# Altium schematic symbol library SMD Micro Controllers.SchLib: 10 symbols
Pins are listed as number, name and electrical type; pins without a type are passive.

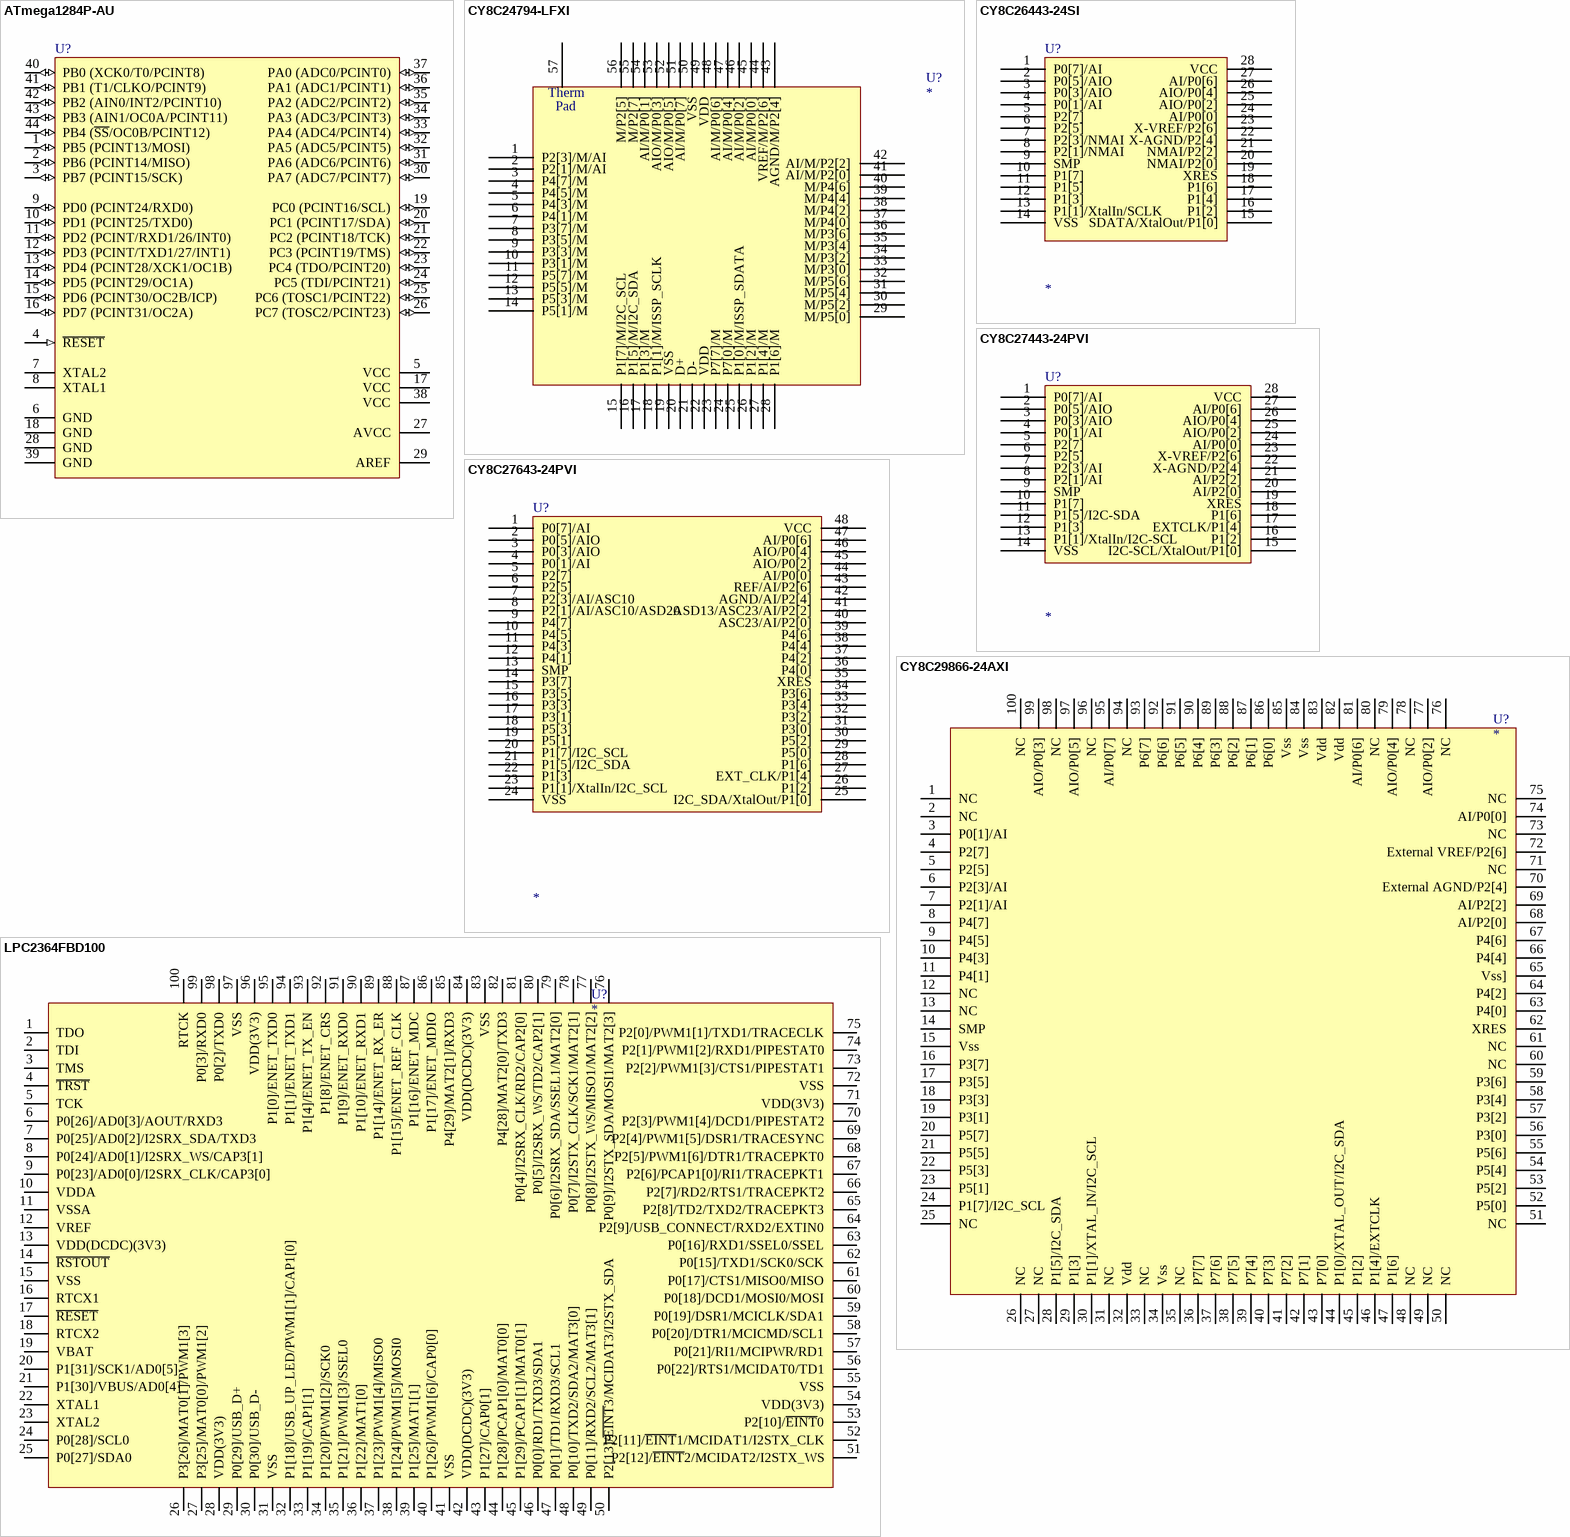
[diagram p0: symbols ATmega1284P-AU to LPC2364FBD100]

## ATmega1284P-AU
designator U?
8-bit AVR Microcontroller, 128KB Flash, 4KB EEPROM, 16KB SRAM, 44-pin TQFP, Industrial Grade (-40°C to 85°C), Reel; Published: 1-Apr-2010; DatasheetVersion: revA, Jan-2010; PackageVersion: rev.B, Oct-2001; PackageReference: 44A; Publisher: Altium Limited; PackageDescription: 44-Pin Plastic Thin Profile Quad Flat Pack, 10 x 10 x 1.0 mm Body, 0.8 mm Pitch (TQFP); Supplier 1: Digi-Key; Supplier Part Number 1: ATMEGA1284P-AUR-ND; Supplier 2: Mouser; Supplier Part Number 2: 556-ATMEGA1284P-AUR; ComponentLink1Description: Manufacturer Link; ComponentLink1URL: http://www.atmel.com/products/avr/default.asp?; ComponentLink2Description: ATmega164A/164PA/324A/324PA/644A/644PA/1284/1284P Datasheet; ComponentLink2URL: http://www.atmel.com/dyn/resources/prod_documents/doc8272.pdf; ComponentLink3Description: ATmega164A/164PA/324A/324PA/644A/644PA/1284/1284P Summary; ComponentLink3URL: http://www.atmel.com/dyn/resources/prod_documents/8272S.pdf; ComponentLink4Description: Atmel.com Home; ComponentLink4URL: http://www.atmel.com
footprint TQFP-44-P08 (Thin QFP, 44-Leads, Body 10x10mm, Pitch 0.8mm, IPC High Density)
pins: 1 PB5 (PCINT13/MOSI) (io), 2 PB6 (PCINT14/MISO) (io), 3 PB7 (PCINT15/SCK) (io), 4 ~{RESET} (in), 5 VCC (power), 6 GND (power), 7 XTAL2, 8 XTAL1, 9 PD0 (PCINT24/RXD0) (io), 10 PD1 (PCINT25/TXD0) (io), 11 PD2 (PCINT/RXD1/26/INT0) (io), 12 PD3 (PCINT/TXD1/27/INT1) (io), 13 PD4 (PCINT28/XCK1/OC1B) (io), 14 PD5 (PCINT29/OC1A) (io), 15 PD6 (PCINT30/OC2B/ICP) (io), 16 PD7 (PCINT31/OC2A) (io), 17 VCC (power), 18 GND (power), 19 PC0 (PCINT16/SCL) (io), 20 PC1 (PCINT17/SDA) (io), 21 PC2 (PCINT18/TCK) (io), 22 PC3 (PCINT19/TMS) (io), 23 PC4 (TDO/PCINT20) (io), 24 PC5 (TDI/PCINT21) (io), 25 PC6 (TOSC1/PCINT22) (io), 26 PC7 (TOSC2/PCINT23) (io), 27 AVCC (power), 28 GND (power), 29 AREF (power), 30 PA7 (ADC7/PCINT7) (io), 31 PA6 (ADC6/PCINT6) (io), 32 PA5 (ADC5/PCINT5) (io), 33 PA4 (ADC4/PCINT4) (io), 34 PA3 (ADC3/PCINT3) (io), 35 PA2 (ADC2/PCINT2) (io), 36 PA1 (ADC1/PCINT1) (io), 37 PA0 (ADC0/PCINT0) (io), 38 VCC (power), 39 GND (power), 40 PB0 (XCK0/T0/PCINT8) (io), 41 PB1 (T1/CLKO/PCINT9) (io), 42 PB2 (AIN0/INT2/PCINT10) (io), 43 PB3 (AIN1/OC0A/PCINT11) (io), 44 PB4 (~{SS}/OC0B/PCINT12) (io)

## CY8C24794-LFXI
designator U?
16k Flash, 1k SRAM, 24MHz, 8 Bit PSoC, Cypress Semiconductor; Text Field2: CY8C24794 Datasheet (.pdf); Text Field1: 16k Flash, 1k SRAM, 24MHz, 8 Bit PSoC, Cypress Semiconductor
footprint QFN-MLF56 (56-Pin Punch Version Quad Flat No-Lead 0.5 mm Pitch, IPC Medium Density)
pins: 1 P2[3]/M/AI, 2 P2[1]/M/AI, 3 P4[7]/M, 4 P4[5]/M, 5 P4[3]/M, 6 P4[1]/M, 7 P3[7]/M, 8 P3[5]/M, 9 P3[3]/M, 10 P3[1]/M, 11 P5[7]/M, 12 P5[5]/M, 13 P5[3]/M, 14 P5[1]/M, 15 P1[7]/M/I2C_SCL, 16 P1[5]/M/I2C_SDA, 17 P1[3]/M, 18 P1[1]/M/ISSP_SCLK, 19 VSS, 20 D+, 21 D-, 22 VDD, 23 P7[7]/M, 24 P7[0]/M, 25 P1[0]/M/ISSP_SDATA, 26 P1[2]/M, 27 P1[4]/M, 28 P1[6]/M, 29 M/P5[0], 30 M/P5[2], 31 M/P5[4], 32 M/P5[6], 33 M/P3[0], 34 M/P3[2], 35 M/P3[4], 36 M/P3[6], 37 M/P4[0], 38 M/P4[2], 39 M/P4[4], 40 M/P4[6], 41 AI/M/P2[0], 42 AI/M/P2[2], 43 AGND/M/P2[4], 44 VREF/M/P2[6], 45 AI/M/P0[0], 46 AI/M/P0[2], 47 AI/M/P0[4], 48 AI/M/P0[6], 49 VDD, 50 VSS, 51 AI/M/P0[7], 52 AIO/M/P0[5], 53 AIO/M/P0[3], 54 AI/M/P0[1], 55 M/P2[7], 56 M/P2[5], 57 Thermal
text: Therm; Pad

## CY8C26443-24SI
designator U?
12k Flash Program, 256 Byte SRAM, 24MHz, 8 Bit, PSoC, Cypress Microcontroller; Text Field2: 8 Digital, 12 Analog PSoC; Text Field3: 24 IO Pins; Text Field4: External Switch Mode Pump; Text Field1: 12k Flash Program, 256 Byte SRAM, 24MHz, 8 Bit,  PSoC, Cypress Microcontroller; SO28W: *
footprint SO28W (28-Pin Small Outline Integrated Circuit 1.27 mm Pitch, IPC Low Density)
pins: 1 P0[7]/AI, 2 P0[5]/AIO, 3 P0[3]/AIO, 4 P0[1]/AI, 5 P2[7], 6 P2[5], 7 P2[3]/NMAI, 8 P2[1]/NMAI, 9 SMP, 10 P1[7], 11 P1[5], 12 P1[3], 13 P1[1]/XtalIn/SCLK, 14 VSS, 15 SDATA/XtalOut/P1[0], 16 P1[2], 17 P1[4], 18 P1[6], 19 XRES, 20 NMAI/P2[0], 21 NMAI/P2[2], 22 X-AGND/P2[4], 23 X-VREF/P2[6], 24 AI/P0[0], 25 AIO/P0[2], 26 AIO/P0[4], 27 AI/P0[6], 28 VCC

## CY8C27443-24PVI
designator U?
12k Flash Program, 256 Byte SRAM, 24MHz, 8 Bit, PSoC, Cypress Microcontroller; Text Field2: 8 Digital, 12 Analog PSoC; Text Field3: 24 IO Pins; Text Field4: External Switch Mode Pump; Text Field1: 12k Flash Program, 256 Byte SRAM, 24MHz, 8 Bit,  PSoC, Cypress Microcontroller; SSOP28-210-1: *
footprint SSOP-28 (SSOP; 28 Leads; Body Width 5.3 mm; Pitch 0.65 mm)
pins: 1 P0[7]/AI, 2 P0[5]/AIO, 3 P0[3]/AIO, 4 P0[1]/AI, 5 P2[7], 6 P2[5], 7 P2[3]/AI, 8 P2[1]/AI, 9 SMP, 10 P1[7], 11 P1[5]/I2C-SDA, 12 P1[3], 13 P1[1]/XtalIn/I2C-SCL, 14 VSS, 15 I2C-SCL/XtalOut/P1[0], 16 P1[2], 17 EXTCLK/P1[4], 18 P1[6], 19 XRES, 20 AI/P2[0], 21 AI/P2[2], 22 X-AGND/P2[4], 23 X-VREF/P2[6], 24 AI/P0[0], 25 AIO/P0[2], 26 AIO/P0[4], 27 AI/P0[6], 28 VCC

## CY8C27643-24PVI
designator U?
16k Flash Program, 256 Byte SRAM, 24MHz, 8 Bit, PSoC, Cypress Microcontroller; Text Field1: 12k Flash Program, 256 Byte SRAM, 24MHz, 8 Bit,  PSoC, Cypress Microcontroller; Text Field2: 8 Digital, 12 Analog PSoC; Text Field3: 44/48 IO Pins; Text Field4: External Switch Mode Pump; SSOP48-300-1: *
footprint SSOP-48 (SSOP; 48 Leads; Body Width 7.5 mm; Pitch 0.635 mm)
pins: 1 P0[7]/AI, 2 P0[5]/AIO, 3 P0[3]/AIO, 4 P0[1]/AI, 5 P2[7], 6 P2[5], 7 P2[3]/AI/ASC10, 8 P2[1]/AI/ASC10/ASD20, 9 P4[7], 10 P4[5], 11 P4[3], 12 P4[1], 13 SMP, 14 P3[7], 15 P3[5], 16 P3[3], 17 P3[1], 18 P5[3], 19 P5[1], 20 P1[7]/I2C_SCL, 21 P1[5]/I2C_SDA, 22 P1[3], 23 P1[1]/XtalIn/I2C_SCL, 24 VSS, 25 I2C_SDA/XtalOut/P1[0], 26 P1[2], 27 EXT_CLK/P1[4], 28 P1[6], 29 P5[0], 30 P5[2], 31 P3[0], 32 P3[2], 33 P3[4], 34 P3[6], 35 XRES, 36 P4[0], 37 P4[2], 38 P4[4], 39 P4[6], 40 ASC23/AI/P2[0], 41 ASD13/ASC23/AI/P2[2], 42 AGND/AI/P2[4], 43 REF/AI/P2[6], 44 AI/P0[0], 45 AIO/P0[2], 46 AIO/P0[4], 47 AI/P0[6], 48 VCC

## CY8C29866-24AXI
designator U?
32k Flash, 2k SRAM, 24MHz, 8 Bit PSoC, Cypress Semiconductor; Text Field2: CY8C29866 Datasheet (.pdf); Text Field1: 32k Flash, 2k SRAM, 24MHz, 8 Bit PSoC, Cypress Semiconductor; TQFP100-14-1: *
footprint TQFP-100-P05 (Thin QFP, 100-Leads, Body 14x14mm, Pitch 0.5mm, IPC High Density)
pins: 1 NC, 2 NC, 3 P0[1]/AI, 4 P2[7], 5 P2[5], 6 P2[3]/AI, 7 P2[1]/AI, 8 P4[7], 9 P4[5], 10 P4[3], 11 P4[1], 12 NC, 13 NC, 14 SMP, 15 Vss, 16 P3[7], 17 P3[5], 18 P3[3], 19 P3[1], 20 P5[7], 21 P5[5], 22 P5[3], 23 P5[1], 24 P1[7]/I2C_SCL, 25 NC, 26 NC, 27 NC, 28 P1[5]/I2C_SDA, 29 P1[3], 30 P1[1]/XTAL_IN/I2C_SCL, 31 NC, 32 Vdd, 33 NC, 34 Vss, 35 NC, 36 P7[7], 37 P7[6], 38 P7[5], 39 P7[4], 40 P7[3], 41 P7[2], 42 P7[1], 43 P7[0], 44 P1[0]/XTAL_OUT/I2C_SDA, 45 P1[2], 46 P1[4]/EXTCLK, 47 P1[6], 48 NC, 49 NC, 50 NC, 51 NC, 52 P5[0], 53 P5[2], 54 P5[4], 55 P5[6], 56 P3[0], 57 P3[2], 58 P3[4], 59 P3[6], 60 NC, 61 NC, 62 XRES, 63 P4[0], 64 P4[2], 65 Vss], 66 P4[4], 67 P4[6], 68 AI/P2[0], 69 AI/P2[2], 70 External AGND/P2[4], 71 NC, 72 External VREF/P2[6], 73 NC, 74 AI/P0[0], 75 NC, 76 NC, 77 AIO/P0[2], 78 NC, 79 AIO/P0[4], 80 NC, 81 AI/P0[6], 82 Vdd, 83 Vdd, 84 Vss, 85 Vss, 86 P6[0], 87 P6[1], 88 P6[2], 89 P6[3], 90 P6[4], 91 P6[5], 92 P6[6], 93 P6[7], 94 NC, 95 AI/P0[7], 96 NC, 97 AIO/P0[5], 98 NC, 99 AIO/P0[3], 100 NC

## LPC2364FBD100
designator U?
ARM7 16/32-Bit Microcontroller, 128KB Flash, 34KB RAM, Ethernet, USB, 2Ch CAN, ADC, DAC, 100-Lead LQFP, NXP
footprint TQFP-100-P05 (Thin QFP, 100-Leads, Body 14x14mm, Pitch 0.5mm, IPC High Density)
pins: 1 TDO, 2 TDI, 3 TMS, 4 ~{TRST}, 5 TCK, 6 P0[26]/AD0[3]/AOUT/RXD3, 7 P0[25]/AD0[2]/I2SRX_SDA/TXD3, 8 P0[24]/AD0[1]/I2SRX_WS/CAP3[1], 9 P0[23]/AD0[0]/I2SRX_CLK/CAP3[0], 10 VDDA, 11 VSSA, 12 VREF, 13 VDD(DCDC)(3V3), 14 ~{RSTOUT}, 15 VSS, 16 RTCX1, 17 ~{RESET}, 18 RTCX2, 19 VBAT, 20 P1[31]/SCK1/AD0[5], 21 P1[30]/VBUS/AD0[4], 22 XTAL1, 23 XTAL2, 24 P0[28]/SCL0, 25 P0[27]/SDA0, 26 P3[26]/MAT0[1]/PWM1[3], 27 P3[25]/MAT0[0]/PWM1[2], 28 VDD(3V3), 29 P0[29]/USB_D+, 30 P0[30]/USB_D-, 31 VSS, 32 P1[18]/USB_UP_LED/PWM1[1]/CAP1[0], 33 P1[19]/CAP1[1], 34 P1[20]/PWM1[2]/SCK0, 35 P1[21]/PWM1[3]/SSEL0, 36 P1[22]/MAT1[0], 37 P1[23]/PWM1[4]/MISO0, 38 P1[24]/PWM1[5]/MOSI0, 39 P1[25]/MAT1[1], 40 P1[26]/PWM1[6]/CAP0[0], 41 VSS, 42 VDD(DCDC)(3V3), 43 P1[27]/CAP0[1], 44 P1[28]/PCAP1[0]/MAT0[0], 45 P1[29]/PCAP1[1]/MAT0[1], 46 P0[0]/RD1/TXD3/SDA1, 47 P0[1]/TD1/RXD3/SCL1, 48 P0[10]/TXD2/SDA2/MAT3[0], 49 P0[11]/RXD2/SCL2/MAT3[1], 50 P2[13]/~{EINT}3/MCIDAT3/I2STX_SDA, 51 P2[12]/~{EINT}2/MCIDAT2/I2STX_WS, 52 P2[11]/~{EINT}1/MCIDAT1/I2STX_CLK, 53 P2[10]/~{EINT}0, 54 VDD(3V3), 55 VSS, 56 P0[22]/RTS1/MCIDAT0/TD1, 57 P0[21]/RI1/MCIPWR/RD1, 58 P0[20]/DTR1/MCICMD/SCL1, 59 P0[19]/DSR1/MCICLK/SDA1, 60 P0[18]/DCD1/MOSI0/MOSI, 61 P0[17]/CTS1/MISO0/MISO, 62 P0[15]/TXD1/SCK0/SCK, 63 P0[16]/RXD1/SSEL0/SSEL, 64 P2[9]/USB_CONNECT/RXD2/EXTIN0, 65 P2[8]/TD2/TXD2/TRACEPKT3, 66 P2[7]/RD2/RTS1/TRACEPKT2, 67 P2[6]/PCAP1[0]/RI1/TRACEPKT1, 68 P2[5]/PWM1[6]/DTR1/TRACEPKT0, 69 P2[4]/PWM1[5]/DSR1/TRACESYNC, 70 P2[3]/PWM1[4]/DCD1/PIPESTAT2, 71 VDD(3V3), 72 VSS, 73 P2[2]/PWM1[3]/CTS1/PIPESTAT1, 74 P2[1]/PWM1[2]/RXD1/PIPESTAT0, 75 P2[0]/PWM1[1]/TXD1/TRACECLK, 76 P0[9]/I2STX_SDA/MOSI1/MAT2[3], 77 P0[8]/I2STX_WS/MISO1/MAT2[2], 78 P0[7]/I2STX_CLK/SCK1/MAT2[1], 79 P0[6]/I2SRX_SDA/SSEL1/MAT2[0], 80 P0[5]/I2SRX_WS/TD2/CAP2[1], 81 P0[4]/I2SRX_CLK/RD2/CAP2[0], 82 P4[28]/MAT2[0]/TXD3, 83 VSS, 84 VDD(DCDC)(3V3), 85 P4[29]/MAT2[1]/RXD3, 86 P1[17]/ENET_MDIO, 87 P1[16]/ENET_MDC, 88 P1[15]/ENET_REF_CLK, 89 P1[14]/ENET_RX_ER, 90 P1[10]/ENET_RXD1, 91 P1[9]/ENET_RXD0, 92 P1[8]/ENET_CRS, 93 P1[4]/ENET_TX_EN, 94 P1[1]/ENET_TXD1, 95 P1[0]/ENET_TXD0, 96 VDD(3V3), 97 VSS, 98 P0[2]/TXD0, 99 P0[3]/RXD0, 100 RTCK

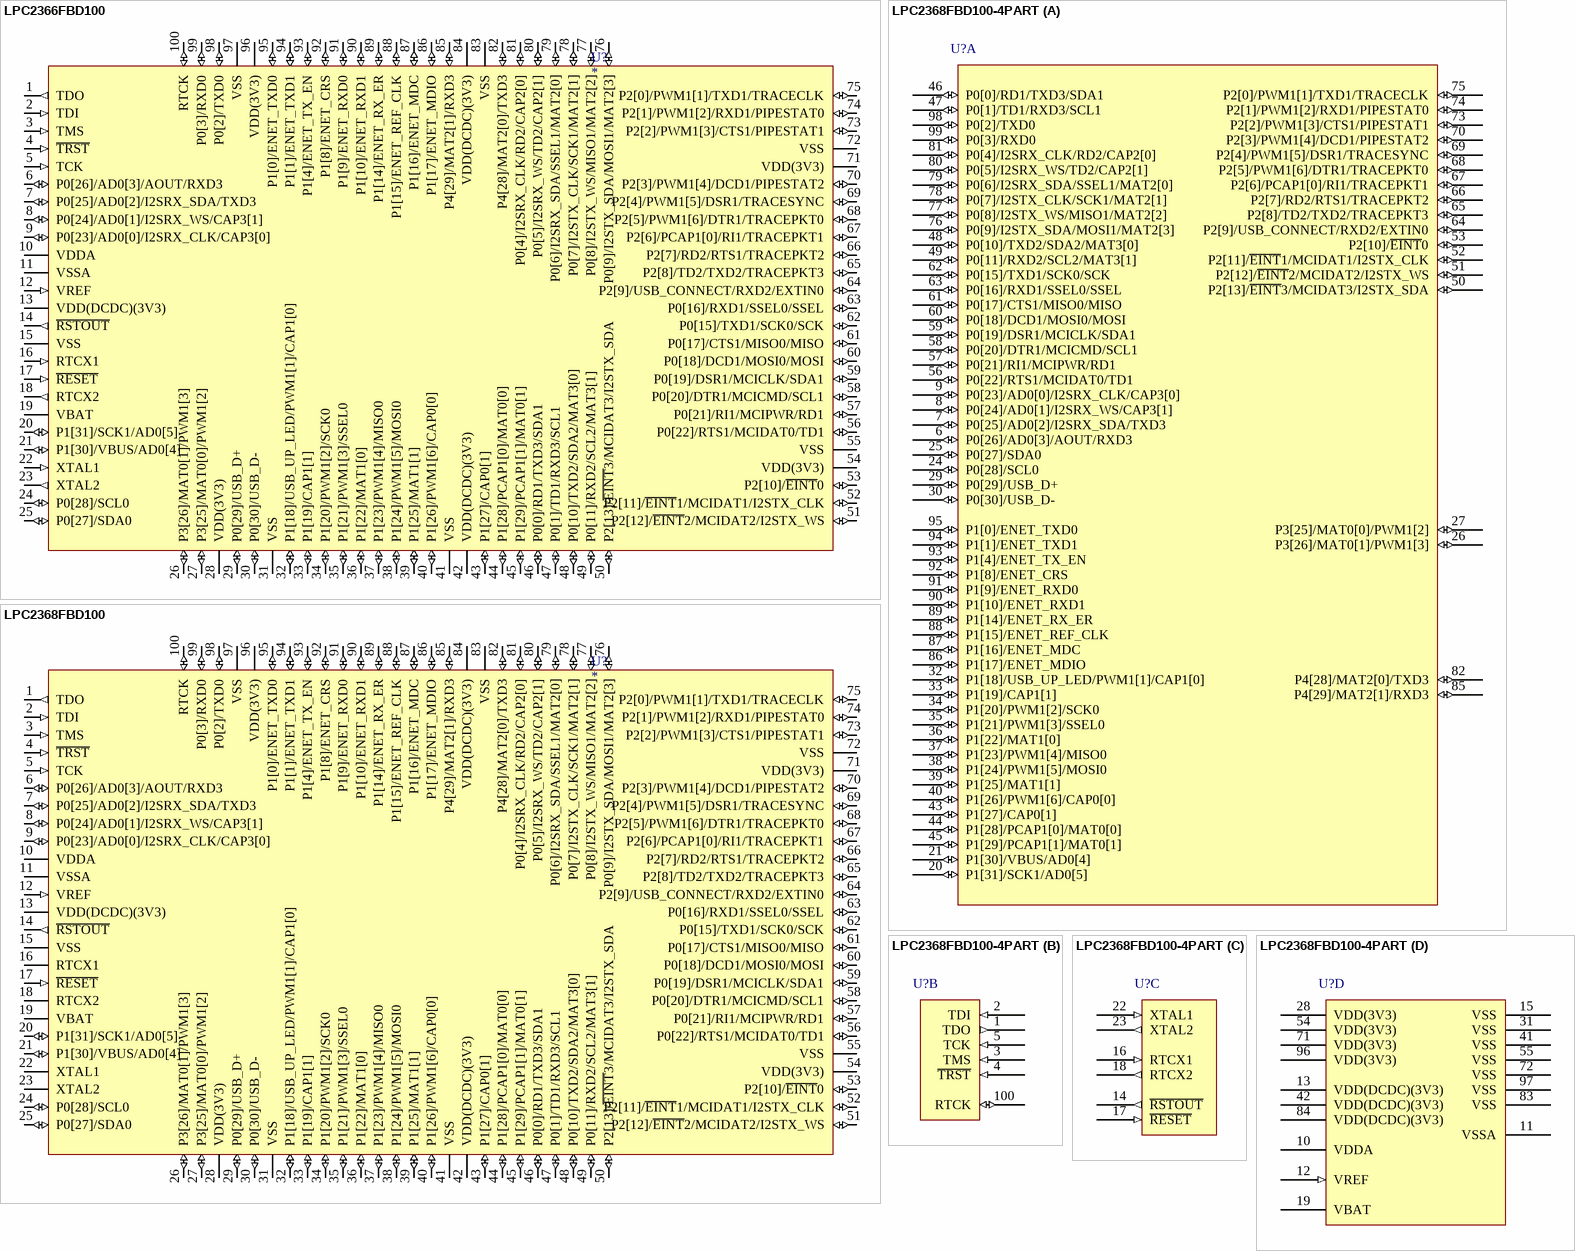
[diagram p1: symbols LPC2366FBD100 to LPC2368FBD100-4PART]

## LPC2366FBD100
designator U?
ARM7 16/32-Bit Microcontroller, 256KB Flash, 58KB RAM, Ethernet, USB, 2Ch CAN, ADC, DAC, 100-Lead LQFP, NXP
footprint TQFP-100-P05 (Thin QFP, 100-Leads, Body 14x14mm, Pitch 0.5mm, IPC High Density)
pins: 1 TDO (out), 2 TDI (in), 3 TMS (in), 4 ~{TRST} (in), 5 TCK (in), 6 P0[26]/AD0[3]/AOUT/RXD3 (io), 7 P0[25]/AD0[2]/I2SRX_SDA/TXD3 (io), 8 P0[24]/AD0[1]/I2SRX_WS/CAP3[1] (io), 9 P0[23]/AD0[0]/I2SRX_CLK/CAP3[0] (io), 10 VDDA (power), 11 VSSA (power), 12 VREF (in), 13 VDD(DCDC)(3V3) (power), 14 ~{RSTOUT} (out), 15 VSS (power), 16 RTCX1 (in), 17 ~{RESET} (in), 18 RTCX2 (out), 19 VBAT (power), 20 P1[31]/SCK1/AD0[5] (io), 21 P1[30]/VBUS/AD0[4] (io), 22 XTAL1 (in), 23 XTAL2 (out), 24 P0[28]/SCL0 (io), 25 P0[27]/SDA0 (io), 26 P3[26]/MAT0[1]/PWM1[3] (io), 27 P3[25]/MAT0[0]/PWM1[2] (io), 28 VDD(3V3) (power), 29 P0[29]/USB_D+ (io), 30 P0[30]/USB_D- (io), 31 VSS (power), 32 P1[18]/USB_UP_LED/PWM1[1]/CAP1[0] (io), 33 P1[19]/CAP1[1] (io), 34 P1[20]/PWM1[2]/SCK0 (io), 35 P1[21]/PWM1[3]/SSEL0 (io), 36 P1[22]/MAT1[0] (io), 37 P1[23]/PWM1[4]/MISO0 (io), 38 P1[24]/PWM1[5]/MOSI0 (io), 39 P1[25]/MAT1[1] (io), 40 P1[26]/PWM1[6]/CAP0[0] (io), 41 VSS (power), 42 VDD(DCDC)(3V3) (power), 43 P1[27]/CAP0[1] (io), 44 P1[28]/PCAP1[0]/MAT0[0] (io), 45 P1[29]/PCAP1[1]/MAT0[1] (io), 46 P0[0]/RD1/TXD3/SDA1 (io), 47 P0[1]/TD1/RXD3/SCL1 (io), 48 P0[10]/TXD2/SDA2/MAT3[0] (io), 49 P0[11]/RXD2/SCL2/MAT3[1] (io), 50 P2[13]/~{EINT}3/MCIDAT3/I2STX_SDA (io), 51 P2[12]/~{EINT}2/MCIDAT2/I2STX_WS (io), 52 P2[11]/~{EINT}1/MCIDAT1/I2STX_CLK (io), 53 P2[10]/~{EINT}0 (io), 54 VDD(3V3) (power), 55 VSS (power), 56 P0[22]/RTS1/MCIDAT0/TD1 (io), 57 P0[21]/RI1/MCIPWR/RD1 (io), 58 P0[20]/DTR1/MCICMD/SCL1 (io), 59 P0[19]/DSR1/MCICLK/SDA1 (io), 60 P0[18]/DCD1/MOSI0/MOSI (io), 61 P0[17]/CTS1/MISO0/MISO (io), 62 P0[15]/TXD1/SCK0/SCK (io), 63 P0[16]/RXD1/SSEL0/SSEL (io), 64 P2[9]/USB_CONNECT/RXD2/EXTIN0 (io), 65 P2[8]/TD2/TXD2/TRACEPKT3 (io), 66 P2[7]/RD2/RTS1/TRACEPKT2 (io), 67 P2[6]/PCAP1[0]/RI1/TRACEPKT1 (io), 68 P2[5]/PWM1[6]/DTR1/TRACEPKT0 (io), 69 P2[4]/PWM1[5]/DSR1/TRACESYNC (io), 70 P2[3]/PWM1[4]/DCD1/PIPESTAT2 (io), 71 VDD(3V3) (power), 72 VSS (power), 73 P2[2]/PWM1[3]/CTS1/PIPESTAT1 (io), 74 P2[1]/PWM1[2]/RXD1/PIPESTAT0 (io), 75 P2[0]/PWM1[1]/TXD1/TRACECLK (io), 76 P0[9]/I2STX_SDA/MOSI1/MAT2[3] (io), 77 P0[8]/I2STX_WS/MISO1/MAT2[2] (io), 78 P0[7]/I2STX_CLK/SCK1/MAT2[1] (io), 79 P0[6]/I2SRX_SDA/SSEL1/MAT2[0] (io), 80 P0[5]/I2SRX_WS/TD2/CAP2[1] (io), 81 P0[4]/I2SRX_CLK/RD2/CAP2[0] (io), 82 P4[28]/MAT2[0]/TXD3 (io), 83 VSS (power), 84 VDD(DCDC)(3V3) (power), 85 P4[29]/MAT2[1]/RXD3 (io), 86 P1[17]/ENET_MDIO (io), 87 P1[16]/ENET_MDC (io), 88 P1[15]/ENET_REF_CLK (io), 89 P1[14]/ENET_RX_ER (io), 90 P1[10]/ENET_RXD1 (io), 91 P1[9]/ENET_RXD0 (io), 92 P1[8]/ENET_CRS (io), 93 P1[4]/ENET_TX_EN (io), 94 P1[1]/ENET_TXD1 (io), 95 P1[0]/ENET_TXD0 (io), 96 VDD(3V3) (power), 97 VSS (power), 98 P0[2]/TXD0 (io), 99 P0[3]/RXD0 (io), 100 RTCK (io)

## LPC2368FBD100
designator U?
ARM7 16/32-Bit Microcontroller, 512KB Flash, 58KB RAM, Ethernet, SD/MMC, USB, 2Ch CAN, ADC, DAC, 100-Lead LQFP, NXP
footprint TQFP-100-P05 (Thin QFP, 100-Leads, Body 14x14mm, Pitch 0.5mm, IPC High Density)
pins: 1 TDO (out), 2 TDI (in), 3 TMS (in), 4 ~{TRST} (in), 5 TCK (in), 6 P0[26]/AD0[3]/AOUT/RXD3 (io), 7 P0[25]/AD0[2]/I2SRX_SDA/TXD3 (io), 8 P0[24]/AD0[1]/I2SRX_WS/CAP3[1] (io), 9 P0[23]/AD0[0]/I2SRX_CLK/CAP3[0] (io), 10 VDDA (power), 11 VSSA (power), 12 VREF (in), 13 VDD(DCDC)(3V3) (power), 14 ~{RSTOUT} (out), 15 VSS (power), 16 RTCX1, 17 ~{RESET} (in), 18 RTCX2, 19 VBAT (power), 20 P1[31]/SCK1/AD0[5] (io), 21 P1[30]/VBUS/AD0[4] (io), 22 XTAL1, 23 XTAL2, 24 P0[28]/SCL0 (io), 25 P0[27]/SDA0 (io), 26 P3[26]/MAT0[1]/PWM1[3] (io), 27 P3[25]/MAT0[0]/PWM1[2] (io), 28 VDD(3V3) (power), 29 P0[29]/USB_D+ (io), 30 P0[30]/USB_D- (io), 31 VSS (power), 32 P1[18]/USB_UP_LED/PWM1[1]/CAP1[0] (io), 33 P1[19]/CAP1[1] (io), 34 P1[20]/PWM1[2]/SCK0 (io), 35 P1[21]/PWM1[3]/SSEL0 (io), 36 P1[22]/MAT1[0] (io), 37 P1[23]/PWM1[4]/MISO0 (io), 38 P1[24]/PWM1[5]/MOSI0 (io), 39 P1[25]/MAT1[1] (io), 40 P1[26]/PWM1[6]/CAP0[0] (io), 41 VSS (power), 42 VDD(DCDC)(3V3) (power), 43 P1[27]/CAP0[1] (io), 44 P1[28]/PCAP1[0]/MAT0[0] (io), 45 P1[29]/PCAP1[1]/MAT0[1] (io), 46 P0[0]/RD1/TXD3/SDA1 (io), 47 P0[1]/TD1/RXD3/SCL1 (io), 48 P0[10]/TXD2/SDA2/MAT3[0] (io), 49 P0[11]/RXD2/SCL2/MAT3[1] (io), 50 P2[13]/~{EINT}3/MCIDAT3/I2STX_SDA (io), 51 P2[12]/~{EINT}2/MCIDAT2/I2STX_WS (io), 52 P2[11]/~{EINT}1/MCIDAT1/I2STX_CLK (io), 53 P2[10]/~{EINT}0 (io), 54 VDD(3V3) (power), 55 VSS (power), 56 P0[22]/RTS1/MCIDAT0/TD1 (io), 57 P0[21]/RI1/MCIPWR/RD1 (io), 58 P0[20]/DTR1/MCICMD/SCL1 (io), 59 P0[19]/DSR1/MCICLK/SDA1 (io), 60 P0[18]/DCD1/MOSI0/MOSI (io), 61 P0[17]/CTS1/MISO0/MISO (io), 62 P0[15]/TXD1/SCK0/SCK (io), 63 P0[16]/RXD1/SSEL0/SSEL (io), 64 P2[9]/USB_CONNECT/RXD2/EXTIN0 (io), 65 P2[8]/TD2/TXD2/TRACEPKT3 (io), 66 P2[7]/RD2/RTS1/TRACEPKT2 (io), 67 P2[6]/PCAP1[0]/RI1/TRACEPKT1 (io), 68 P2[5]/PWM1[6]/DTR1/TRACEPKT0 (io), 69 P2[4]/PWM1[5]/DSR1/TRACESYNC (io), 70 P2[3]/PWM1[4]/DCD1/PIPESTAT2 (io), 71 VDD(3V3) (power), 72 VSS (power), 73 P2[2]/PWM1[3]/CTS1/PIPESTAT1 (io), 74 P2[1]/PWM1[2]/RXD1/PIPESTAT0 (io), 75 P2[0]/PWM1[1]/TXD1/TRACECLK (io), 76 P0[9]/I2STX_SDA/MOSI1/MAT2[3] (io), 77 P0[8]/I2STX_WS/MISO1/MAT2[2] (io), 78 P0[7]/I2STX_CLK/SCK1/MAT2[1] (io), 79 P0[6]/I2SRX_SDA/SSEL1/MAT2[0] (io), 80 P0[5]/I2SRX_WS/TD2/CAP2[1] (io), 81 P0[4]/I2SRX_CLK/RD2/CAP2[0] (io), 82 P4[28]/MAT2[0]/TXD3 (io), 83 VSS (power), 84 VDD(DCDC)(3V3) (power), 85 P4[29]/MAT2[1]/RXD3 (io), 86 P1[17]/ENET_MDIO (io), 87 P1[16]/ENET_MDC (io), 88 P1[15]/ENET_REF_CLK (io), 89 P1[14]/ENET_RX_ER (io), 90 P1[10]/ENET_RXD1 (io), 91 P1[9]/ENET_RXD0 (io), 92 P1[8]/ENET_CRS (io), 93 P1[4]/ENET_TX_EN (io), 94 P1[1]/ENET_TXD1 (io), 95 P1[0]/ENET_TXD0 (io), 96 VDD(3V3) (power), 97 VSS (power), 98 P0[2]/TXD0 (io), 99 P0[3]/RXD0 (io), 100 RTCK (io)

## LPC2368FBD100-4PART
designator U?
ARM7 16/32-Bit Microcontroller, 512KB Flash, 58KB RAM, 4 Channel CAN, 100-Lead LQFP; Code_IEC: 136E20; Published: 17-Aug-2007; DatasheetVersion: rev.01, Jan-2007; PackageVersion: Feb-2003; PackageReference: SOT407-1; Publisher: Altium Limited; PackageDescription: 100-Pin Plastic Low Profile Quad Flat Pack, LQFP100; Code_JEDEC: MS-026; ComponentLink1Description: Manufacturer Link; ComponentLink1URL: http://www.nxp.com/; ComponentLink2Description: Datasheet; ComponentLink2URL: http://www.standardics.nxp.com/products/lpc2000/datasheet/lpc2364.lpc2366.lpc2368.pdf
footprint TQFP-100-P05 (Thin QFP, 100-Leads, Body 14x14mm, Pitch 0.5mm, IPC High Density)
part A pins: 6 P0[26]/AD0[3]/AOUT/RXD3 (io), 7 P0[25]/AD0[2]/I2SRX_SDA/TXD3 (io), 8 P0[24]/AD0[1]/I2SRX_WS/CAP3[1] (io), 9 P0[23]/AD0[0]/I2SRX_CLK/CAP3[0] (io), 20 P1[31]/SCK1/AD0[5] (io), 21 P1[30]/VBUS/AD0[4] (io), 24 P0[28]/SCL0 (io), 25 P0[27]/SDA0 (io), 26 P3[26]/MAT0[1]/PWM1[3] (io), 27 P3[25]/MAT0[0]/PWM1[2] (io), 29 P0[29]/USB_D+ (io), 30 P0[30]/USB_D- (io), 32 P1[18]/USB_UP_LED/PWM1[1]/CAP1[0] (io), 33 P1[19]/CAP1[1] (io), 34 P1[20]/PWM1[2]/SCK0 (io), 35 P1[21]/PWM1[3]/SSEL0 (io), 36 P1[22]/MAT1[0] (io), 37 P1[23]/PWM1[4]/MISO0 (io), 38 P1[24]/PWM1[5]/MOSI0 (io), 39 P1[25]/MAT1[1] (io), 40 P1[26]/PWM1[6]/CAP0[0] (io), 43 P1[27]/CAP0[1] (io), 44 P1[28]/PCAP1[0]/MAT0[0] (io), 45 P1[29]/PCAP1[1]/MAT0[1] (io), 46 P0[0]/RD1/TXD3/SDA1 (io), 47 P0[1]/TD1/RXD3/SCL1 (io), 48 P0[10]/TXD2/SDA2/MAT3[0] (io), 49 P0[11]/RXD2/SCL2/MAT3[1] (io), 50 P2[13]/~{EINT}3/MCIDAT3/I2STX_SDA (io), 51 P2[12]/~{EINT}2/MCIDAT2/I2STX_WS (io), 52 P2[11]/~{EINT}1/MCIDAT1/I2STX_CLK (io), 53 P2[10]/~{EINT}0 (io), 56 P0[22]/RTS1/MCIDAT0/TD1 (io), 57 P0[21]/RI1/MCIPWR/RD1 (io), 58 P0[20]/DTR1/MCICMD/SCL1 (io), 59 P0[19]/DSR1/MCICLK/SDA1 (io), 60 P0[18]/DCD1/MOSI0/MOSI (io), 61 P0[17]/CTS1/MISO0/MISO (io), 62 P0[15]/TXD1/SCK0/SCK (io), 63 P0[16]/RXD1/SSEL0/SSEL (io), 64 P2[9]/USB_CONNECT/RXD2/EXTIN0 (io), 65 P2[8]/TD2/TXD2/TRACEPKT3 (io), 66 P2[7]/RD2/RTS1/TRACEPKT2 (io), 67 P2[6]/PCAP1[0]/RI1/TRACEPKT1 (io), 68 P2[5]/PWM1[6]/DTR1/TRACEPKT0 (io), 69 P2[4]/PWM1[5]/DSR1/TRACESYNC (io), 70 P2[3]/PWM1[4]/DCD1/PIPESTAT2 (io), 73 P2[2]/PWM1[3]/CTS1/PIPESTAT1 (io), 74 P2[1]/PWM1[2]/RXD1/PIPESTAT0 (io), 75 P2[0]/PWM1[1]/TXD1/TRACECLK (io), 76 P0[9]/I2STX_SDA/MOSI1/MAT2[3] (io), 77 P0[8]/I2STX_WS/MISO1/MAT2[2] (io), 78 P0[7]/I2STX_CLK/SCK1/MAT2[1] (io), 79 P0[6]/I2SRX_SDA/SSEL1/MAT2[0] (io), 80 P0[5]/I2SRX_WS/TD2/CAP2[1] (io), 81 P0[4]/I2SRX_CLK/RD2/CAP2[0] (io), 82 P4[28]/MAT2[0]/TXD3 (io), 85 P4[29]/MAT2[1]/RXD3 (io), 86 P1[17]/ENET_MDIO (io), 87 P1[16]/ENET_MDC (io), 88 P1[15]/ENET_REF_CLK (io), 89 P1[14]/ENET_RX_ER (io), 90 P1[10]/ENET_RXD1 (io), 91 P1[9]/ENET_RXD0 (io), 92 P1[8]/ENET_CRS (io), 93 P1[4]/ENET_TX_EN (io), 94 P1[1]/ENET_TXD1 (io), 95 P1[0]/ENET_TXD0 (io), 98 P0[2]/TXD0 (io), 99 P0[3]/RXD0 (io)
part B pins: 1 TDO (out), 2 TDI (in), 3 TMS (in), 4 ~{TRST} (in), 5 TCK (in), 100 RTCK (io)
part C pins: 14 ~{RSTOUT} (out), 16 RTCX1 (in), 17 ~{RESET} (in), 18 RTCX2 (out), 22 XTAL1 (in), 23 XTAL2 (out)
part D pins: 10 VDDA (power), 11 VSSA (power), 12 VREF (in), 13 VDD(DCDC)(3V3) (power), 15 VSS (power), 19 VBAT (power), 28 VDD(3V3) (power), 31 VSS (power), 41 VSS (power), 42 VDD(DCDC)(3V3) (power), 54 VDD(3V3) (power), 55 VSS (power), 71 VDD(3V3) (power), 72 VSS (power), 83 VSS (power), 84 VDD(DCDC)(3V3) (power), 96 VDD(3V3) (power), 97 VSS (power)